# Altium schematic symbol library Schlib2.SchLib: 9 symbols
Pins are listed as number, name and electrical type; pins without a type are passive.

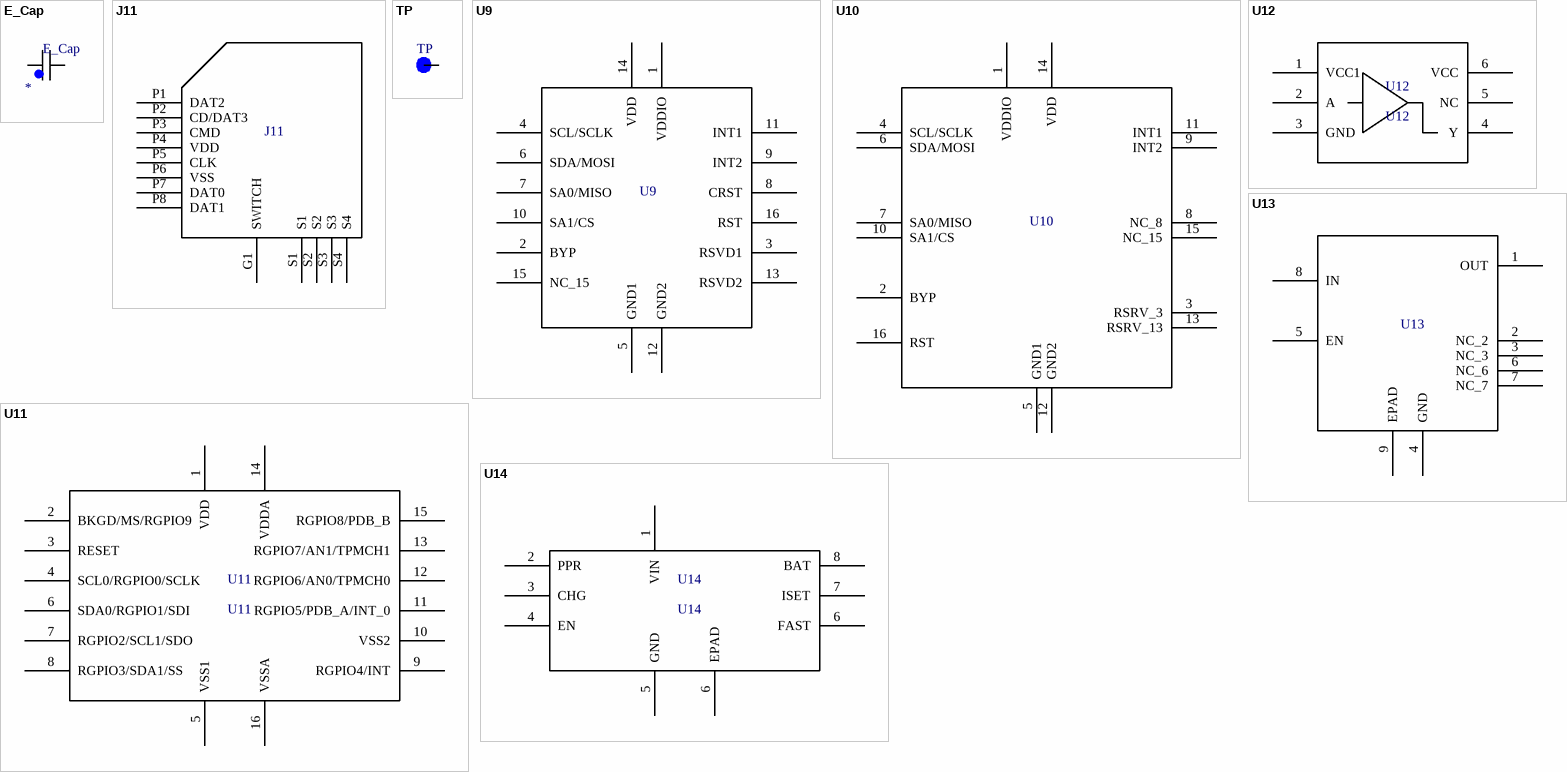
[diagram p0: symbols E_Cap to U14]

## E_Cap
designator E_Cap  (value not drawn)
Electrolytic capacitor; Value: *
pins: 7, 8

## J11
designator J11  (value not drawn)
CON microSD
footprint 105162-0001
pins: G1 SWITCH, P1 DAT2, P2 CD/DAT3, P3 CMD, P4 VDD, P5 CLK, P6 VSS, P7 DAT0, P8 DAT1, S1, S2, S3, S4

## TP
designator TP  (value not drawn)
pins: 1

## U9
designator U9  (value not drawn)
FXOS8700CQ
footprint PQFN50P300X300X100-16N
pins: 1 VDDIO, 2 BYP, 3 RSVD1, 4 SCL/SCLK, 5 GND1, 6 SDA/MOSI, 7 SA0/MISO, 8 CRST, 9 INT2, 10 SA1/CS, 11 INT1, 12 GND2, 13 RSVD2, 14 VDD, 15 NC_15, 16 RST

## U10
designator U10  (value not drawn)
FXLS8471Q
footprint PQFN50P300X300X100-16N
pins: 1 VDDIO, 2 BYP, 3 RSRV_3, 4 SCL/SCLK, 5 GND1, 6 SDA/MOSI, 7 SA0/MISO, 8 NC_8, 9 INT2, 10 SA1/CS, 11 INT1, 12 GND2, 13 RSRV_13, 14 VDD, 15 NC_15, 16 RST

## U11
designator U11
MMA9553L
pins: 1 VDD, 2 BKGD/MS/RGPIO9, 3 RESET, 4 SCL0/RGPIO0/SCLK, 5 VSS1, 6 SDA0/RGPIO1/SDI, 7 RGPIO2/SCL1/SDO, 8 RGPIO3/SDA1/SS, 9 RGPIO4/INT, 10 VSS2, 11 RGPIO5/PDB_A/INT_0, 12 RGPIO6/AN0/TPMCH0, 13 RGPIO7/AN1/TPMCH1, 14 VDDA, 15 RGPIO8/PDB_B, 16 VSSA

## U12
designator U12
FXLP34L6X
footprint SON50P100X145X55-6N
pins: 1 VCC1, 2 A, 3 GND, 4 Y, 5 NC, 6 VCC

## U13
designator U13  (value not drawn)
AP7361
footprint SON65P300X300X60-9N-D
pins: 1 OUT, 2 NC_2, 3 NC_3, 4 GND, 5 EN, 6 NC_6, 7 NC_7, 8 IN, 9 EPAD

## U14
designator U14
MC34673AEP
footprint DFN200X300X65-9N
pins: 1 VIN, 2 PPR, 3 CHG, 4 EN, 5 GND, 6 FAST, 6 EPAD, 7 ISET, 8 BAT